# Altium footprint library SIPF19_2.PcbLib: 1 footprints
Each footprint in its own frame and in the unit in brackets; x right, y up, seen from the top. Pads: shape width x height; smd on the part's side, far side on the other; paste and mask are expansions set on the pad; w line width, h text height; cw(c..) or ccw(c..) is an arc to the next point about the centre after c.
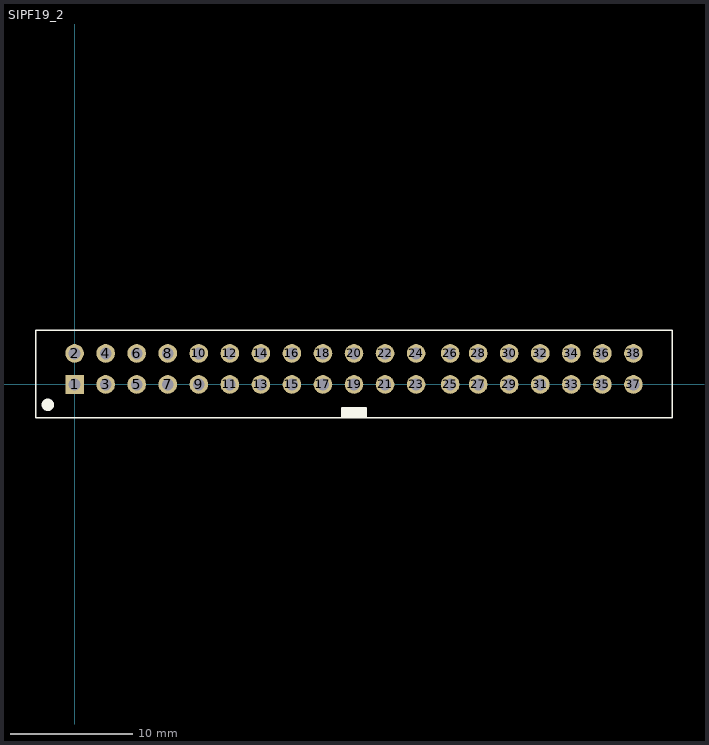
[diagram p0: the footprint, top view; thin cyan lines are the x and y axes]

## SIPF19_2 [mil]
pads (38):
  rect 60x60 hole 38: 1(0,0)
  round 60 hole 38: 2(0,100) 3(100,0) 4(100,100) 5(200,0) 6(200,100) 7(300,0) 8(300,100) 9(400,0) 10(400,100) 11(500,0) 12(500,100) 13(600,0) 14(600,100) 15(700,0) 16(700,100) 17(800,0) 18(800,100) 19(900,0) 20(900,100) 21(1000,0) 22(1000,100) 23(1100,0) 24(1100,100) 25(1210,0) 26(1210,100) 27(1300,0) 28(1300,100) 29(1400,0) 30(1400,100) 31(1500,0) 32(1500,100) 33(1600,0) 34(1600,100) 35(1700,0) 36(1700,100) 37(1800,0) 38(1800,100)
Top Overlay:
  circle w20: c-86.5,-65.5 r10
  rectangle: 860.63,-107.48 939.37,-75
  lines w5: 860.63,-107.48 860.63,-75 939.37,-75 939.37,-107.48 ; -125,-107.48 1925,-107.48 1925,175 -125,175 -125,-107.48
3D body "female_header_a-bl254-dg-g14d.stp": height 334.65, standoff -125.98, extent 1155.08,-48.42 1864.92,148.43
3D body "female_header_a-bl254-dg-g14d.stp": height 334.65, standoff -125.98, extent 545.08,-48.42 1254.92,148.43
3D body "female_header_a-bl254-dg-g14d.stp": height 334.65, standoff -125.98, extent -54.92,-48.42 654.92,148.43